# Altium schematic symbol library Schlib1.SchLib: 3 symbols
Pins are listed as number, name and electrical type; pins without a type are passive.

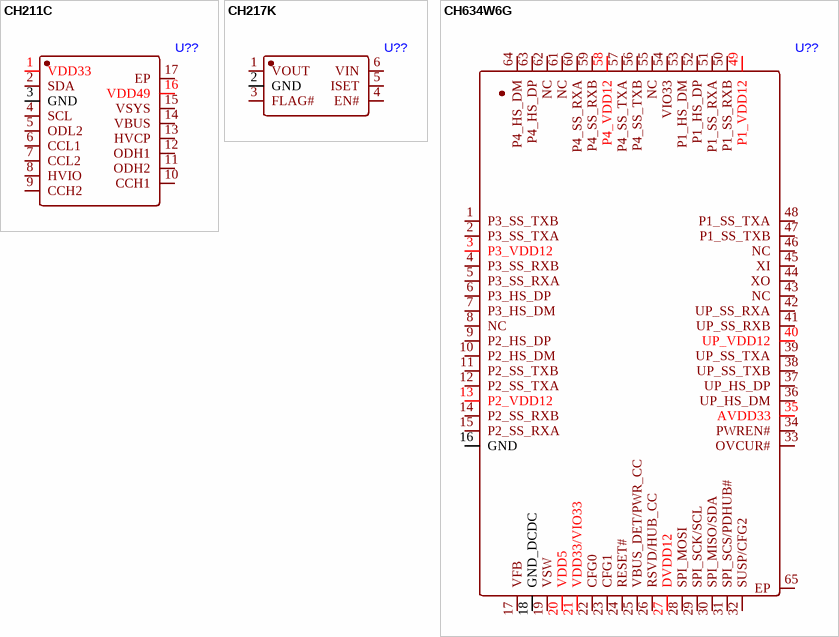
[diagram p0: symbols CH211C to CH634W6G]

## CH211C
designator U??
footprint QFN-16C_L2.0-W2.0-P0.40-BL-EP1.2
pins: 1 VDD33, 2 SDA, 3 GND, 4 SCL, 5 ODL2, 6 CCL1, 7 CCL2, 8 HVIO, 9 CCH2, 10 CCH1, 11 ODH2, 12 ODH1, 13 HVCP, 14 VBUS, 15 VSYS, 16 VDD49, 17 EP

## CH217K
designator U??
footprint IC_IC-DP_SOT23-6L
pins: 1 VOUT, 2 GND, 3 FLAG#, 4 EN#, 5 ISET, 6 VIN

## CH634W6G
designator U??
footprint CH634w
pins: 1 P3_SS_TXB, 2 P3_SS_TXA, 3 P3_VDD12, 4 P3_SS_RXB, 5 P3_SS_RXA, 6 P3_HS_DP, 7 P3_HS_DM, 8 NC, 9 P2_HS_DP, 10 P2_HS_DM, 11 P2_SS_TXB, 12 P2_SS_TXA, 13 P2_VDD12, 14 P2_SS_RXB, 15 P2_SS_RXA, 16 GND, 17 VFB, 18 GND_DCDC, 19 VSW, 20 VDD5, 21 VDD33/VIO33, 22 CFG0, 23 CFG1, 24 RESET#, 25 VBUS_DET/PWR_CC, 26 RSVD/HUB_CC, 27 DVDD12, 28 SPI_MOSI, 29 SPI_SCK/SCL, 30 SPI_MISO/SDA, 31 SPI_SCS/PDHUB#, 32 SUSP/CFG2, 33 OVCUR#, 34 PWREN#, 35 AVDD33, 36 UP_HS_DM, 37 UP_HS_DP, 38 UP_SS_TXB, 39 UP_SS_TXA, 40 UP_VDD12, 41 UP_SS_RXB, 42 UP_SS_RXA, 43 NC, 44 XO, 45 XI, 46 NC, 47 P1_SS_TXB, 48 P1_SS_TXA, 49 P1_VDD12, 50 P1_SS_RXB, 51 P1_SS_RXA, 52 P1_HS_DP, 53 P1_HS_DM, 54 VIO33, 55 NC, 56 P4_SS_TXB, 57 P4_SS_TXA, 58 P4_VDD12, 59 P4_SS_RXB, 60 P4_SS_RXA, 61 NC, 62 NC, 63 P4_HS_DP, 64 P4_HS_DM, 65 EP